# Altium footprint library SWpush_footprint.PcbLib: 1 footprints
Each footprint in its own frame and in the unit in brackets; x right, y up, seen from the top. Pads: shape width x height; smd on the part's side, far side on the other; paste and mask are expansions set on the pad; w line width, h text height; cw(c..) or ccw(c..) is an arc to the next point about the centre after c.
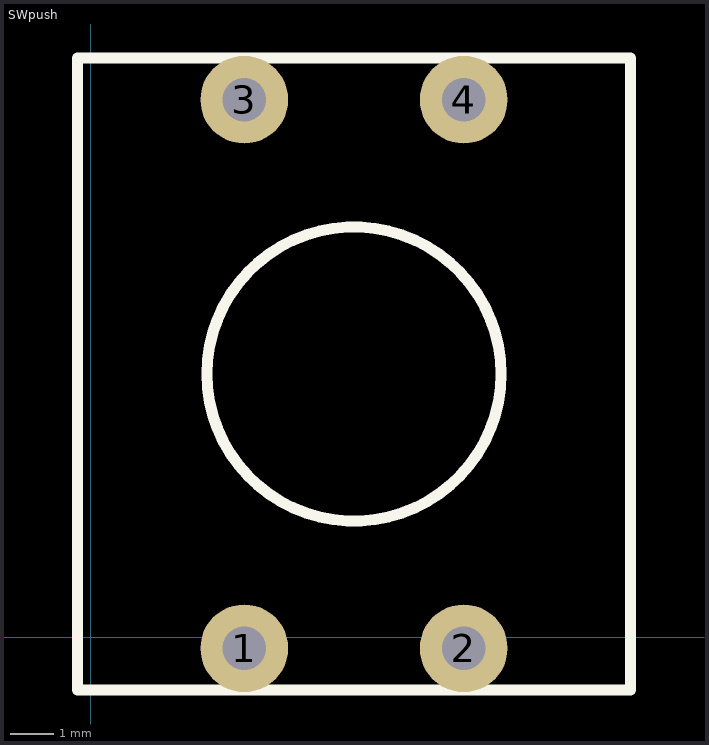
[diagram p0: the footprint, top view; thin cyan lines are the x and y axes]

## SWpush [mm]
pads (4):
  round 2 hole 1: 1(3.5,-0.25) 2(8.5,-0.25) 3(3.5,12.25) 4(8.5,12.25)
Top Overlay:
  circle w0.254: c6,6 r3.35
  lines w0.254: -0.3,-1.2 -0.3,13.2 12.3,13.2 12.3,-1.2 -0.3,-1.2